# Altium footprint library SI_tmp.PcbLib: 2 footprints
Each footprint in its own frame and in the unit in brackets; x right, y up, seen from the top. Pads: shape width x height; smd on the part's side, far side on the other; paste and mask are expansions set on the pad; w line width, h text height; cw(c..) or ccw(c..) is an arc to the next point about the centre after c.
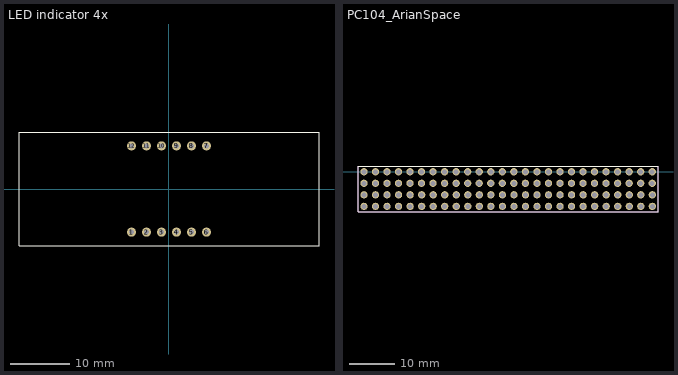
[diagram p0: the footprints below, top view; thin cyan lines are the x and y axes]

## LED indicator 4x [mm]
pads (12):
  round 1.524 hole 0.8: 1(-6.35,-7.3) 2(-3.81,-7.3) 3(-1.27,-7.3) 4(1.27,-7.3) 5(3.81,-7.3) 6(6.35,-7.3) 7(6.35,7.3) 8(3.81,7.3) 9(1.27,7.3) 10(-1.27,7.3) 11(-3.81,7.3) 12(-6.35,7.3)
Top Overlay:
  lines w0.127: -25.4,-9.6 -25.4,-8.75 -25.4,9.6 25.4,9.6 25.4,-9.6 -25.4,-9.6
3D body "User Library-C-564 (7 segment 4 digit LED display).sldprt": height 8, standoff -6.2, extent -25.2,-9.5 25.2,9.5

## PC104_ArianSpace [mm]
pads (104):
  round 1.6 hole 1.1 mask+0: 1(5.079,-7.62) 2(5.08,-5.08) 3(7.619,-7.62) 4(7.62,-5.08) 5(10.159,-7.62) 6(10.16,-5.08) 7(12.699,-7.62) 8(12.7,-5.08) 9(15.239,-7.62) 10(15.24,-5.08) 11(17.779,-7.62) 12(17.78,-5.08) 13(20.319,-7.62) 14(20.32,-5.08) 15(22.859,-7.62) 16(22.86,-5.08) 17(25.399,-7.62) 18(25.4,-5.08) 19(27.939,-7.62) 20(27.94,-5.08) 21(30.479,-7.62) 22(30.48,-5.08) 23(33.019,-7.62) 24(33.02,-5.08) 25(35.559,-7.62) 26(35.56,-5.08) 27(38.099,-7.62) 28(38.1,-5.08) 29(40.639,-7.62) 30(40.64,-5.08) 31(43.179,-7.62) 32(43.18,-5.08) 33(45.719,-7.62) 34(45.72,-5.08) 35(48.259,-7.62) 36(48.26,-5.08) 37(50.799,-7.62) 38(50.8,-5.08) 39(53.339,-7.62) 40(53.34,-5.08) 41(55.879,-7.62) 42(55.88,-5.08) 43(58.419,-7.62) 44(58.42,-5.08) 45(60.959,-7.62) 46(60.96,-5.08) 47(63.499,-7.62) 48(63.5,-5.08) 49(66.039,-7.62) 50(66.04,-5.08) 51(68.579,-7.62) 52(68.58,-5.08) 53(5.057,-2.54) 54(5.058,0) 55(7.597,-2.54) 56(7.598,0) 57(10.137,-2.54) 58(10.138,0) 59(12.677,-2.54) 60(12.678,0) 61(15.217,-2.54) 62(15.218,0) 63(17.757,-2.54) 64(17.758,0) 65(20.297,-2.54) 66(20.298,0) 67(22.837,-2.54) 68(22.838,0) 69(25.377,-2.54) 70(25.378,0) 71(27.917,-2.54) 72(27.918,0) 73(30.457,-2.54) 74(30.458,0) 75(32.997,-2.54) 76(32.998,0) 77(35.537,-2.54) 78(35.538,0) 79(38.077,-2.54) 80(38.078,0) 81(40.617,-2.54) 82(40.618,0) 83(43.157,-2.54) 84(43.158,0) 85(45.697,-2.54) 86(45.698,0) 87(48.237,-2.54) 88(48.238,0) 89(50.777,-2.54) 90(50.778,0) 91(53.317,-2.54) 92(53.318,0) 93(55.857,-2.54) 94(55.858,0) 95(58.397,-2.54) 96(58.398,0) 97(60.937,-2.54) 98(60.938,0) 99(63.477,-2.54) 100(63.478,0) 101(66.017,-2.54) 102(66.018,0) 103(68.557,-2.54) 104(68.558,0)
Top Overlay:
  lines w0.254: 3.759,-8.814 3.759,1.219 69.825,1.219 69.825,-8.814 3.759,-8.814
Bottom Overlay:
  lines w0.254: 3.759,-8.814 69.825,-8.814 69.825,1.219 3.759,1.219 3.759,-8.814
Top Assembly:
  lines w0.254: 3.759,-8.814 69.825,-8.814 69.825,1.219 3.759,1.219 3.759,-8.814
Bottom Assembly:
  lines w0.254: 3.759,-8.814 69.825,-8.814 69.825,1.219 3.759,1.219 3.759,-8.814
Top Courtyard (Mech15):
  lines w0.254: 3.759,-8.814 69.825,-8.814 69.825,1.219 3.759,1.219 3.759,-8.814
Bottom Courtyard (Mech16):
  lines w0.254: 3.759,-8.814 3.759,1.219 69.825,1.219 69.825,-8.814 3.759,-8.814
3D body "User Library-PC104-52.STEP": height 11.68, standoff -12.32, extent 3.759,-8.839 69.799,-3.759
3D body "User Library-PC104-52.STEP": height 11.68, standoff -12.32, extent 3.759,-3.759 69.799,1.321